# Altium schematic symbol library picr22-team-owo-mainboard-lib.SchLib: 18 symbols
Pins are listed as number, name and electrical type; pins without a type are passive.

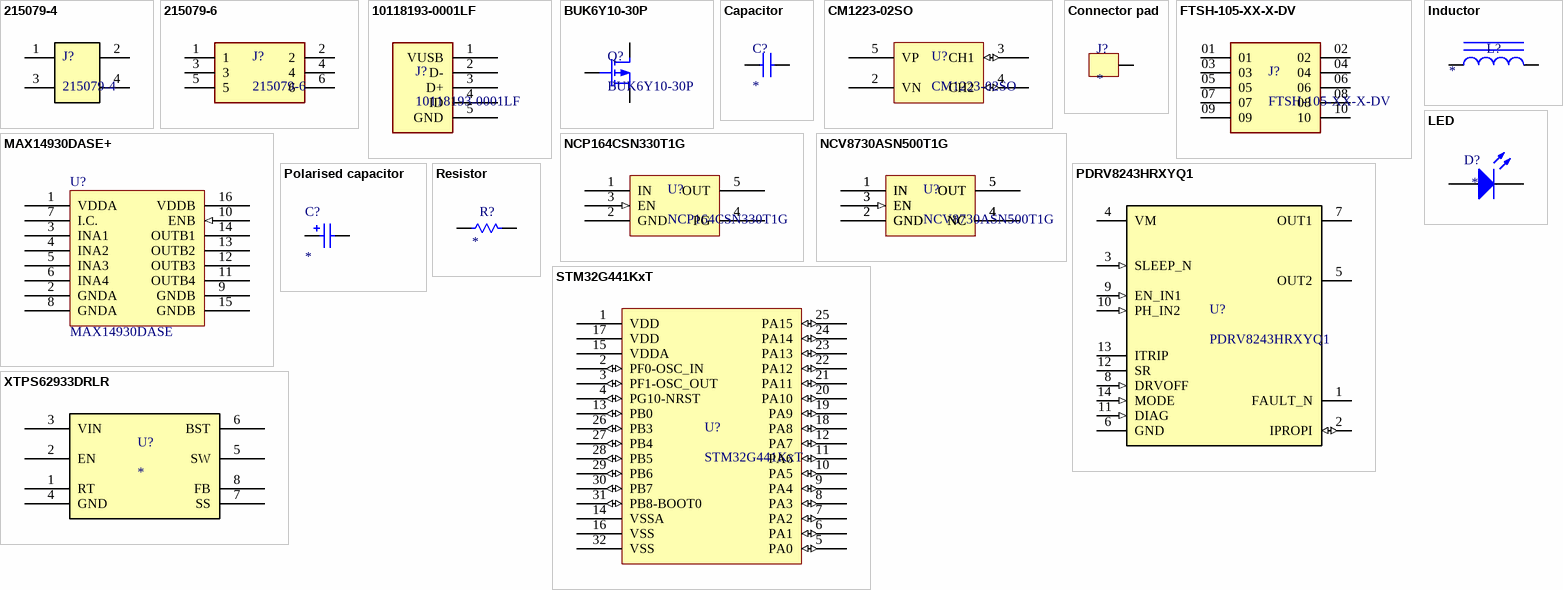
[diagram p0: symbols 215079-4 to XTPS62933DRLR]

## 215079-4
designator J?
No Description Available; Mfr_Name: TE Connectivity; Copyright: Copyright (C) 2022 Ultra Librarian. All rights reserved.; Manufacturer_Part_Number: 215079-4; RefDes: RefDes; Type: DEV
footprint CONN_215079-4_TYC
pins: 1, 2, 3, 4

## 215079-6
designator J?
footprint CONN_215079-6_TYC
pins: 1, 2, 3, 4, 5, 6

## 10118193-0001LF
designator J?
USB - micro B USB 2.0 Receptacle Connector 5 Position Surface Mount, Right Angle; Through Hole; MF: Amphenol ICC; Availability: Unavailable; SnapEDA_Link: https://www.snapeda.com/parts/10118193-0001LF/Amphenol%20FCI/view-part/2758989/?ref=snap; MP: 10118193-0001LF; Price: None; Value: *; Package: None
footprint USB port
pins: 1 VUSB (power), 2 D-, 3 D+, 4 ID, 5 GND (power)

## BUK6Y10-30P
designator Q?
footprint DPAK127P600X120-5N (TO, 5-Pads, Body 5.15x5.86mm (max), IPC Medium Density)
pins: 1,2,3 S, 4 G, 5 D

## Capacitor
designator C?, comment Generic SMD capacitor  (value not drawn)
Value: *
footprint Capacitor 0603 (Chip Capacitor, 2-Leads, Body 1.60x0.80mm, IPC Medium Density)
footprint Capacitor 1206
pins: 1, 2

## CM1223-02SO
designator U?
footprint SOT95P280X145-5N (SOT23, 5-Leads, Body 2.90x2.80mm, Pitch 0.95mm, IPC Medium Density)
pins: 2 VN (power), 3 CH1 (io), 4 CH2 (io), 5 VP (power)

## Connector pad
designator J?
footprint 3x3mm pad
footprint 5x5mm pad
pins: 1 6

## FTSH-105-XX-X-DV
designator J?
Connector Header Surface Mount 10 position 0.050" (1.27mm); Availability: Unavailable; Package: None; MP: FTSH-105-XX-X-DV; Price: None; Value: *
footprint SAMTEC_FTSH-105-XX-X-DV
pins: 01, 02, 03, 04, 05, 06, 07, 08, 09, 10

## Inductor
designator L?
Value: *
footprint Inductor ?
pins: 1, 2

## LED
designator D?
footprint DIODE 0603
pins: 1 A, 2 K

## MAX14930DASE+
designator U?, comment MAX14930DASE
footprint SOIC127P630X175-16N (SOIC, 16-Leads, Body 9.90x3.90mm, Pitch 1.27mm, IPC Medium Density)
pins: 1 VDDA (power), 2 GNDA (power), 3 INA1, 4 INA2, 5 INA3, 6 INA4, 7 I.C., 8 GNDA (power), 9 GNDB (power), 10 ENB (in), 11 OUTB4, 12 OUTB3, 13 OUTB2, 14 OUTB1, 15 GNDB (power), 16 VDDB (power)

## NCP164CSN330T1G
designator U?
footprint TSOP95P280X110-5N (TSOP, 5-Leads, Body 3.00x1.50mm, Pitch 0.95mm, IPC Medium Density)
pins: 1 IN (power), 2 GND (power), 3 EN (in), 4 PG (oc), 5 OUT (power)

## NCV8730ASN500T1G
designator U?
footprint TSOP95P280X110-5N (TSOP, 5-Leads, Body 3.00x1.50mm, Pitch 0.95mm, IPC Medium Density)
pins: 1 IN (power), 1 IN (power), 2 GND (power), 2 GND (power), 3 EN (in), 3 EN (in), 4 NC, 4 NC, 5 OUT (power), 5 OUT (power)

## PDRV8243HRXYQ1
designator U?
No Description Available; Mfr_Name: Texas Instruments; Type: DEV; RefDes: RefDes; Copyright: Copyright (C) 2022 Ultra Librarian. All rights reserved.; Manufacturer_Part_Number: PDRV8243HRXYQ1
footprint RXY0014A-MFG
pins: 1 FAULT_N (oc), 2 IPROPI (io), 3 SLEEP_N (in), 4 VM (power), 5 OUT2, 6 GND (power), 7 OUT1, 8 DRVOFF (in), 9 EN_IN1 (in), 10 PH_IN2 (in), 11 DIAG (in), 12 SR, 13 ITRIP, 14 MODE (in)

## Polarised capacitor
designator C?
Value: *
footprint CAPAE9883X105N (Aluminum Electrolytic Capacitor, Body 8.30x8.30x10.50mm, IPC Medium Density)
pins: 1, 2

## Resistor
designator R?, comment Generic SMD resistor  (value not drawn)
Value: *
footprint Resistor 0603 (Chip Resistor, 2-Leads, Body 1.60x0.80mm, IPC Medium Density)
pins: 1 5, 2

## STM32G441KxT
designator U?
footprint TQFP80P900X900X160-32N (TQFP, 32-Leads, Body 7.00x7.00mm, Pitch 0.80mm, IPC Medium Density)
pins: 1 VDD (power), 2 PF0-OSC_IN (io), 3 PF1-OSC_OUT (io), 4 PG10-NRST (io), 5 PA0 (io), 6 PA1 (io), 7 PA2 (io), 8 PA3 (io), 9 PA4 (io), 10 PA5 (io), 11 PA6 (io), 12 PA7 (io), 13 PB0 (io), 14 VSSA (power), 15 VDDA (power), 16 VSS (power), 17 VDD (power), 18 PA8 (io), 19 PA9 (io), 20 PA10 (io), 21 PA11 (io), 22 PA12 (io), 23 PA13 (io), 24 PA14 (io), 25 PA15 (io), 26 PB3 (io), 27 PB4 (io), 28 PB5 (io), 29 PB6 (io), 30 PB7 (io), 31 PB8-BOOT0 (io), 32 VSS (power)

## XTPS62933DRLR
designator U?
footprint SOT-5X3 8N (TSSOP, 8-Leads, Body 2.10x1.20mm, Pitch 0.50mm, IPC Medium Density)
pins: 1 RT, 2 EN, 3 VIN (power), 4 GND (power), 5 SW, 6 BST, 7 SS, 8 FB